# Altium footprint library PCB - LEADLESS - BGA - SAMSUNG KLMAG1JETD-B041.PcbLib: 2 footprints
Each footprint in its own frame and in the unit in brackets; x right, y up, seen from the top. Pads: shape width x height; smd on the part's side, far side on the other; paste and mask are expansions set on the pad; w line width, h text height; cw(c..) or ccw(c..) is an arc to the next point about the centre after c.
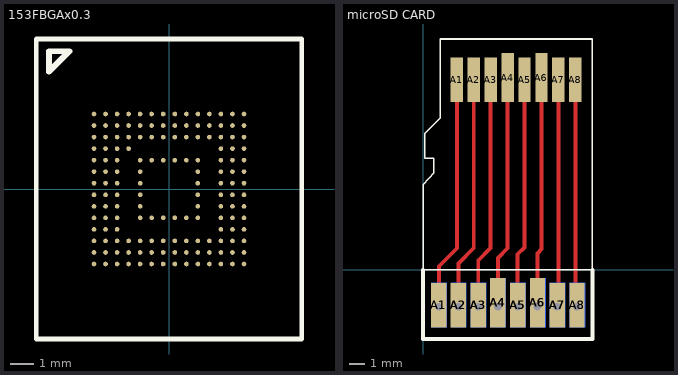
[diagram p0: the footprints below, top view; thin cyan lines are the x and y axes]

## 153FBGAx0.3 [mm] "153 balls FBGA 0.3mm"
pads (153):
  round 0.2 smd mask+0.04: A1(-3.25,3.25) A2(-2.75,3.25) A3(-2.25,3.25) A4(-1.75,3.25) A5(-1.25,3.25) A6(-0.75,3.25) A7(-0.25,3.25) A8(0.25,3.25) A9(0.75,3.25) A10(1.25,3.25) A11(1.75,3.25) A12(2.25,3.25) A13(2.75,3.25) A14(3.25,3.25) B1(-3.25,2.75) B2(-2.75,2.75) B3(-2.25,2.75) B4(-1.75,2.75) B5(-1.25,2.75) B6(-0.75,2.75) B7(-0.25,2.75) B8(0.25,2.75) B9(0.75,2.75) B10(1.25,2.75) B11(1.75,2.75) B12(2.25,2.75) B13(2.75,2.75) B14(3.25,2.75) C1(-3.25,2.25) C2(-2.75,2.25) C3(-2.25,2.25) C4(-1.75,2.25) C5(-1.25,2.25) C6(-0.75,2.25) C7(-0.25,2.25) C8(0.25,2.25) C9(0.75,2.25) C10(1.25,2.25) C11(1.75,2.25) C12(2.25,2.25) C13(2.75,2.25) C14(3.25,2.25) D1(-3.25,1.75) D2(-2.75,1.75) D3(-2.25,1.75) D4(-1.75,1.75) D12(2.25,1.75) D13(2.75,1.75) D14(3.25,1.75) E1(-3.25,1.25) E2(-2.75,1.25) E3(-2.25,1.25) E5(-1.25,1.25) E6(-0.75,1.25) E7(-0.25,1.25) E8(0.25,1.25) E9(0.75,1.25) E10(1.25,1.25) E12(2.25,1.25) E13(2.75,1.25) E14(3.25,1.25) F1(-3.25,0.75) F2(-2.75,0.75) F3(-2.25,0.75) F5(-1.25,0.75) F10(1.25,0.75) F12(2.25,0.75) F13(2.75,0.75) F14(3.25,0.75) G1(-3.25,0.25) G2(-2.75,0.25) G3(-2.25,0.25) G5(-1.25,0.25) G10(1.25,0.25) G12(2.25,0.25) G13(2.75,0.25) G14(3.25,0.25) H1(-3.25,-0.25) H2(-2.75,-0.25) H3(-2.25,-0.25) H5(-1.25,-0.25) H10(1.25,-0.25) H12(2.25,-0.25) H13(2.75,-0.25) H14(3.25,-0.25) J1(-3.25,-0.75) J2(-2.75,-0.75) J3(-2.25,-0.75) J5(-1.25,-0.75) J10(1.25,-0.75) J12(2.25,-0.75) J13(2.75,-0.75) J14(3.25,-0.75) K1(-3.25,-1.25) K2(-2.75,-1.25) K3(-2.25,-1.25) K5(-1.25,-1.25) K6(-0.75,-1.25) K7(-0.25,-1.25) K8(0.25,-1.25) K9(0.75,-1.25) K10(1.25,-1.25) K12(2.25,-1.25) K13(2.75,-1.25) K14(3.25,-1.25) L1(-3.25,-1.75) L2(-2.75,-1.75) L3(-2.25,-1.75) L12(2.25,-1.75) L13(2.75,-1.75) L14(3.25,-1.75) M1(-3.25,-2.25) M2(-2.75,-2.25) M3(-2.25,-2.25) M4(-1.75,-2.25) M5(-1.25,-2.25) M6(-0.75,-2.25) M7(-0.25,-2.25) M8(0.25,-2.25) M9(0.75,-2.25) M10(1.25,-2.25) M11(1.75,-2.25) M12(2.25,-2.25) M13(2.75,-2.25) M14(3.25,-2.25) N1(-3.25,-2.75) N2(-2.75,-2.75) N3(-2.25,-2.75) N4(-1.75,-2.75) N5(-1.25,-2.75) N6(-0.75,-2.75) N7(-0.25,-2.75) N8(0.25,-2.75) N9(0.75,-2.75) N10(1.25,-2.75) N11(1.75,-2.75) N12(2.25,-2.75) N13(2.75,-2.75) N14(3.25,-2.75) P1(-3.25,-3.25) P2(-2.75,-3.25) P3(-2.25,-3.25) P4(-1.75,-3.25) P5(-1.25,-3.25) P6(-0.75,-3.25) P7(-0.25,-3.25) P8(0.25,-3.25) P9(0.75,-3.25) P10(1.25,-3.25) P11(1.75,-3.25) P12(2.25,-3.25) P13(2.75,-3.25) P14(3.25,-3.25)
Top Overlay:
  lines w0.2: -5.75,-6.5 5.75,-6.5 5.75,6.5 -5.75,6.5 -5.75,-6.5
  lines w0.254: -5.207,5.08 -4.318,5.969 -5.207,5.969 -5.207,5.08
3D body "eMMC153BallWFBGA.STEP": height 0.76, standoff -0.05, extent -5.75,-6.5 5.75,6.5

## microSD CARD [mm]
pads (24):
  rect 1x2.9 smd: A1(1,-2.3) A2(2.286,-2.3) A3(3.571,-2.3) A5(6.143,-2.3) A7(8.714,-2.3) A8(10,-2.3)
  rect 1x2.9 smd far side: A1(1.025,-2.3) A2(2.311,-2.3) A3(3.597,-2.3) A5(6.168,-2.3) A7(8.74,-2.3) A8(10.025,-2.3)
  rect 0.8x2.9 smd: A1(2.188,12.347) A2(3.288,12.347) A3(4.388,12.347) A5(6.588,12.347) A7(8.788,12.347) A8(9.888,12.347)
  rect 1x3.2 smd: A4(4.857,-2.15) A6(7.429,-2.15)
  rect 1x3.2 smd far side: A4(4.883,-2.15) A6(7.454,-2.15)
  rect 0.8x3.2 smd: A4(5.488,12.497) A6(7.688,12.497)
via 2.297,-2.413 diameter 0.8 hole 0.5
via 3.578,-2.413 diameter 0.8 hole 0.5
via 4.859,-2.413 diameter 0.8 hole 0.5
via 6.14,-2.413 diameter 0.8 hole 0.5
via 7.42,-2.413 diameter 0.8 hole 0.5
via 9.982,-2.413 diameter 0.8 hole 0.5
via 8.701,-2.413 diameter 0.8 hole 0.5
via 1.016,-2.413 diameter 0.8 hole 0.5
Top Layer:
  lines w0.254: 1.016,-2.413 1.016,0.229 2.188,1.4 2.188,12.347 ; 2.297,-2.413 2.297,0.417 3.288,1.408 3.288,12.347 ; 3.578,-2.413 3.578,0.606 4.388,1.416 4.388,12.347 ; 4.859,-2.413 4.859,0.769 5.488,1.398 5.488,12.497 ; 6.14,-2.413 6.14,1.009 6.588,1.457 6.588,12.347 ; 7.42,-2.413 7.42,1.07 7.688,1.338 7.688,12.497 ; 8.701,-2.413 8.788,-2.327 8.788,12.347 ; 9.888,12.347 9.888,-2.319 9.982,-2.413
Top Overlay:
  lines w0.1: 0,0 11,0 11,15 1.118,15 1.118,9.881 0.1,8.863 0.1,7.239 0.7,7.239 0.7,6.304 0,5.546 0,0
  lines w0.254: 0,0 0,-4.5 11,-4.5 11,0